# EAGLE library part NHD-C0220BIZ (library NHD-C0220BiZ)
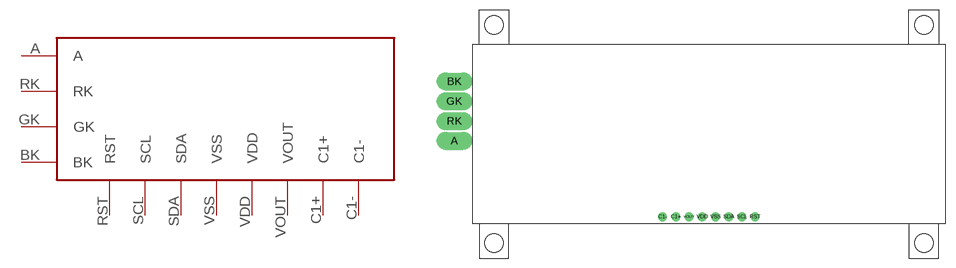
[diagram p0: symbol with the pads of NHD-C0220BIZ; footprint NHD-C0220BIZ]

Designator prefix -

## NHD-C0220BIZ  [NHD-C0220BIZ]
A  A
BK  BK
C1+  C1+
C1-  C1-
GK  GK
RK  RK
RST  RST
SCL  SCL
SDA  SDA
VDD  VDD
VOUT  VOUT
VSS  VSS

## Footprint NHD-C0220BIZ (pad centres in mm)
drill 1.8 long: A -6,15.5; BK -6,24.5; GK -6,21.5; RK -6,18.5
drill 0.8: C1+ 27.5,4; C1- 25.5,4; RST 39.5,4; SCL 37.5,4; SDA 35.5,4; VDD 31.5,4; VOUT 29.5,4; VSS 33.5,4
hole 2.8 at 0,0
hole 2.8 at 65,0
hole 2.8 at 65,33.1
hole 2.8 at 0,33.1